# Altium footprint library pcblib_STD.PcbLib: 26 footprints (part 1 of 2)
Each footprint in its own frame and in the unit in brackets; x right, y up, seen from the top. Pads: shape width x height; smd on the part's side, far side on the other; paste and mask are expansions set on the pad; w line width, h text height; cw(c..) or ccw(c..) is an arc to the next point about the centre after c.
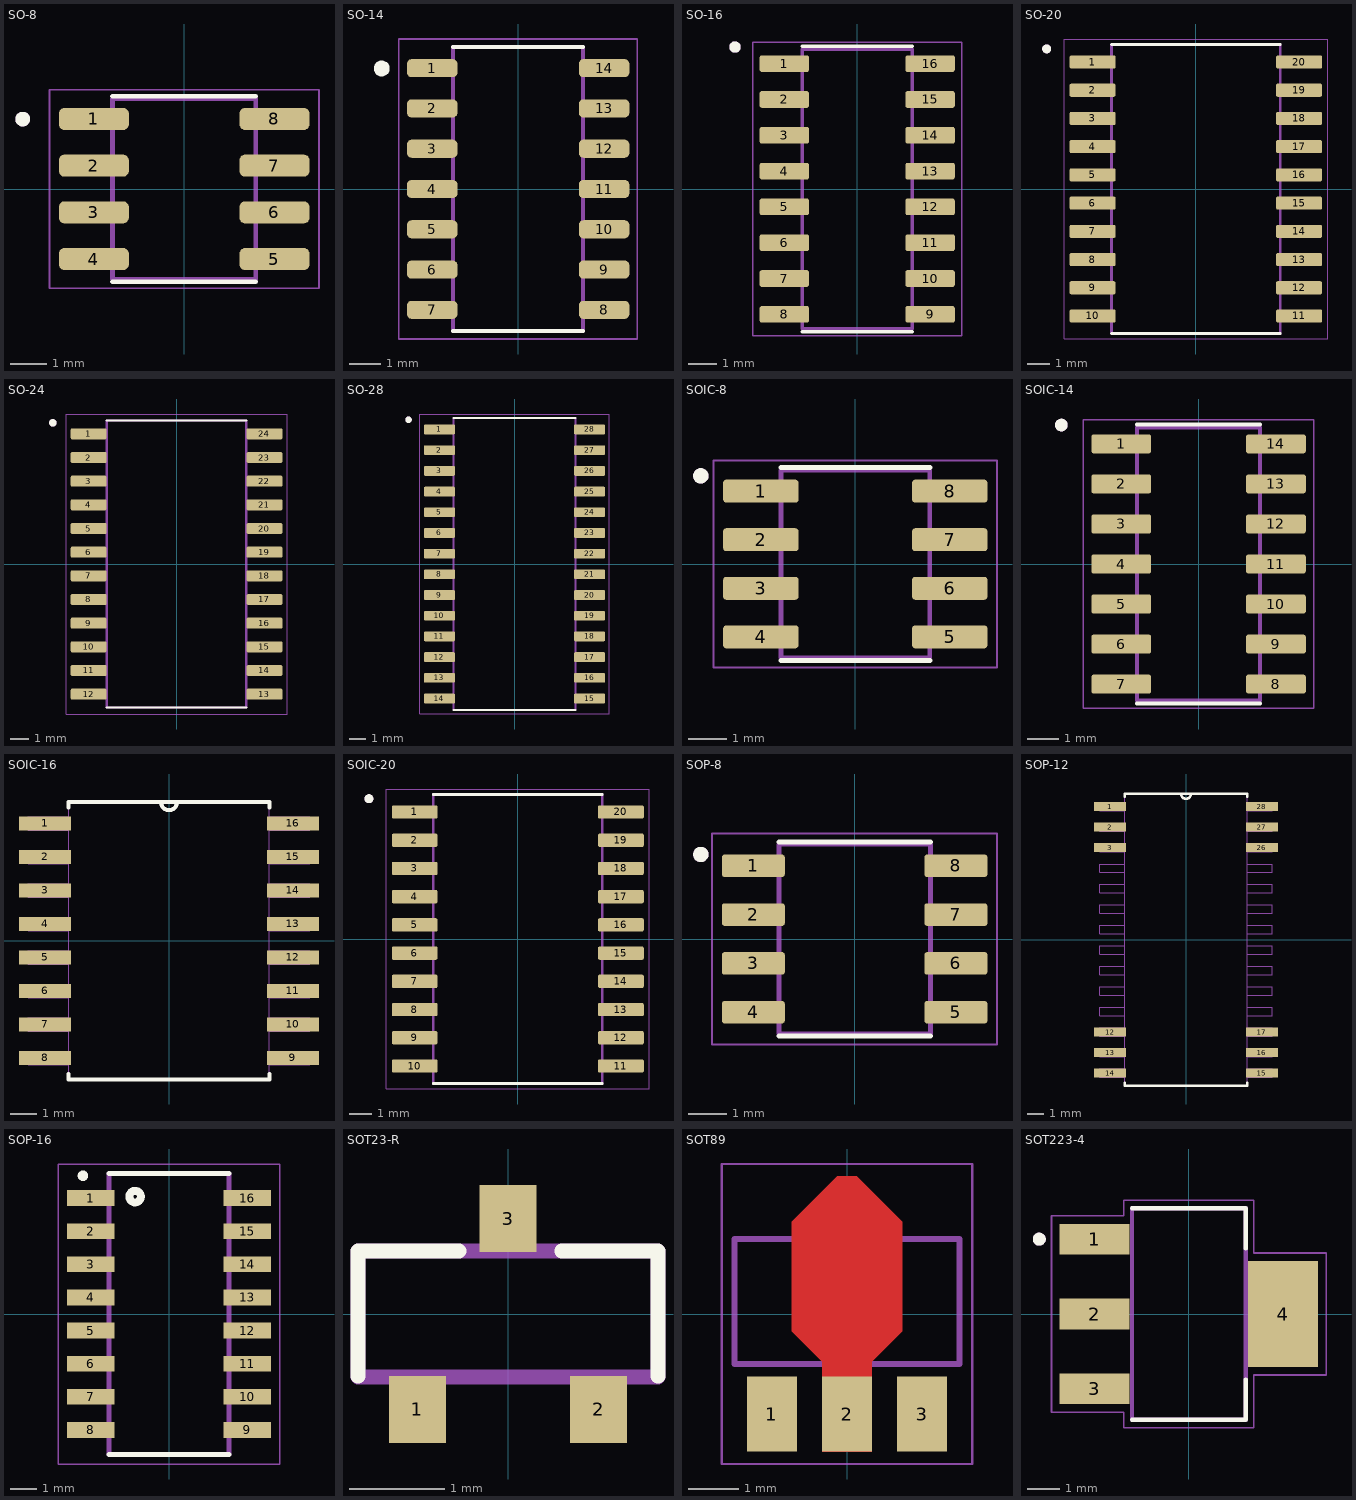
[diagram p0: the footprints below, top view; thin cyan lines are the x and y axes]

## SO-8 [mm]
pads (8):
  rrect50% 1.9x0.6 smd: 1(-2.455,1.905) 2(-2.455,0.635) 3(-2.455,-0.635) 4(-2.455,-1.905) 5(2.455,-1.905) 6(2.455,-0.635) 7(2.455,0.635) 8(2.455,1.905)
Top Overlay:
  circle w0.2: c-4.39,1.9 r0.1
  lines w0.127: -1.95,-2.519 1.95,-2.519 ; -1.95,2.519 1.95,2.519
Mechanical 13:
  circle w0.2: c-4.39,1.9 r0.1
  lines w0.127: -1.95,-2.45 -1.95,2.45 1.95,2.45 1.95,-2.45 -1.95,-2.45
Mechanical 15:
  lines w0.05: -3.665,-2.7 3.665,-2.7 3.665,2.7 -3.665,2.7 -3.665,-2.7

## SO-14 [mm]
pads (14):
  rrect50% 1.59x0.57 smd: 1(-2.71,3.81) 2(-2.71,2.54) 3(-2.71,1.27) 4(-2.71,0) 5(-2.71,-1.27) 6(-2.71,-2.54) 7(-2.71,-3.81) 8(2.71,-3.81) 9(2.71,-2.54) 10(2.71,-1.27) 11(2.71,0) 12(2.71,1.27) 13(2.71,2.54) 14(2.71,3.81)
Top Overlay:
  circle w0.3: c-4.3,3.8 r0.1
  lines w0.127: -2.05,-4.48 2.05,-4.48 ; -2.05,4.48 2.05,4.48
Mechanical 13:
  lines w0.127: -2.05,-4.48 -2.05,4.48 2.05,4.48 2.05,-4.48 -2.05,-4.48
Mechanical 15:
  lines w0.05: -3.76,-4.73 -3.76,4.73 3.76,4.73 3.76,-4.73 -3.76,-4.73

## SO-16 [mm]
pads (16):
  rrect25% 1.75x0.59 smd: 1(-2.585,4.445) 2(-2.585,3.175) 3(-2.585,1.905) 4(-2.585,0.635) 5(-2.585,-0.635) 6(-2.585,-1.905) 7(-2.585,-3.175) 8(-2.585,-4.445) 9(2.585,-4.445) 10(2.585,-3.175) 11(2.585,-1.905) 12(2.585,-0.635) 13(2.585,0.635) 14(2.585,1.905) 15(2.585,3.175) 16(2.585,4.445)
Top Overlay:
  circle w0.2: c-4.335,5.035 r0.1
  lines w0.127: -1.95,-5.06 1.95,-5.06 ; -1.95,5.06 1.95,5.06
Mechanical 13:
  circle w0.2: c-4.335,5.035 r0.1
  lines w0.127: -1.95,-4.95 1.95,-4.95 1.95,4.95 -1.95,4.95 -1.95,-4.95
Mechanical 15:
  lines w0.05: -3.71,-5.2 3.71,-5.2 3.71,5.2 -3.71,5.2 -3.71,-5.2

## SO-20 [mm]
pads (20):
  rrect25% 2.07x0.59 smd: 1(-4.645,5.715) 2(-4.645,4.445) 3(-4.645,3.175) 4(-4.645,1.905) 5(-4.645,0.635) 6(-4.645,-0.635) 7(-4.645,-1.905) 8(-4.645,-3.175) 9(-4.645,-4.445) 10(-4.645,-5.715) 11(4.645,-5.715) 12(4.645,-4.445) 13(4.645,-3.175) 14(4.645,-1.905) 15(4.645,-0.635) 16(4.645,0.635) 17(4.645,1.905) 18(4.645,3.175) 19(4.645,4.445) 20(4.645,5.715)
Top Overlay:
  circle w0.2: c-6.715,6.305 r0.1
  lines w0.127: -3.8,-6.5 3.8,-6.5 ; -3.8,6.5 3.8,6.5
Mechanical 13:
  circle w0.2: c-6.715,6.305 r0.1
  lines w0.127: -3.8,-6.5 3.8,-6.5 3.8,6.5 -3.8,6.5 -3.8,-6.5
Mechanical 15:
  lines w0.05: -5.93,-6.75 5.93,-6.75 5.93,6.75 -5.93,6.75 -5.93,-6.75

## SO-24 [mm]
pads (24):
  rrect25% 1.92x0.59 smd: 1(-4.72,6.985) 2(-4.72,5.715) 3(-4.72,4.445) 4(-4.72,3.175) 5(-4.72,1.905) 6(-4.72,0.635) 7(-4.72,-0.635) 8(-4.72,-1.905) 9(-4.72,-3.175) 10(-4.72,-4.445) 11(-4.72,-5.715) 12(-4.72,-6.985) 13(4.72,-6.985) 14(4.72,-5.715) 15(4.72,-4.445) 16(4.72,-3.175) 17(4.72,-1.905) 18(4.72,-0.635) 19(4.72,0.635) 20(4.72,1.905) 21(4.72,3.175) 22(4.72,4.445) 23(4.72,5.715) 24(4.72,6.985)
Top Overlay:
  circle w0.2: c-6.64,7.575 r0.1
  lines w0.127: -3.75,-7.7 3.75,-7.7 ; -3.75,7.7 3.75,7.7
Mechanical 13:
  circle w0.2: c-6.64,7.575 r0.1
  lines w0.127: -3.75,-7.7 3.75,-7.7 3.75,7.7 -3.75,7.7 -3.75,-7.7
Mechanical 15:
  lines w0.05: -5.93,-8.05 5.93,-8.05 5.93,8.05 -5.93,8.05 -5.93,-8.05

## SO-28 [mm]
pads (28):
  rrect25% 1.9x0.6 smd: 1(-4.605,8.255) 2(-4.605,6.985) 3(-4.605,5.715) 4(-4.605,4.445) 5(-4.605,3.175) 6(-4.605,1.905) 7(-4.605,0.635) 8(-4.605,-0.635) 9(-4.605,-1.905) 10(-4.605,-3.175) 11(-4.605,-4.445) 12(-4.605,-5.715) 13(-4.605,-6.985) 14(-4.605,-8.255) 15(4.605,-8.255) 16(4.605,-6.985) 17(4.605,-5.715) 18(4.605,-4.445) 19(4.605,-3.175) 20(4.605,-1.905) 21(4.605,-0.635) 22(4.605,0.635) 23(4.605,1.905) 24(4.605,3.175) 25(4.605,4.445) 26(4.605,5.715) 27(4.605,6.985) 28(4.605,8.255)
Top Overlay:
  circle w0.2: c-6.505,8.855 r0.1
  lines w0.127: -3.75,-8.95 3.75,-8.95 ; -3.75,8.95 3.75,8.95
Mechanical 13:
  circle w0.2: c-6.505,8.855 r0.1
  lines w0.127: -3.75,-8.95 -3.75,8.95 3.75,8.95 3.75,-8.95 -3.75,-8.95
Mechanical 15:
  lines w0.05: -5.805,-9.2 -5.805,9.2 5.805,9.2 5.805,-9.2 -5.805,-9.2

## SOIC-8 [mm]
pads (8):
  rrect25% 1.97x0.6 smd: 1(-2.47,1.905) 2(-2.47,0.635) 3(-2.47,-0.635) 4(-2.47,-1.905) 5(2.47,-1.905) 6(2.47,-0.635) 7(2.47,0.635) 8(2.47,1.905)
Top Overlay:
  circle w0.2: c-4.04,2.305 r0.1
  lines w0.127: -1.95,-2.525 1.95,-2.525 ; -1.95,2.525 1.95,2.525
Mechanical 13:
  circle w0.2: c-4.04,2.305 r0.1
  lines w0.127: -1.947,-2.452 1.947,-2.452 1.947,2.452 -1.947,2.452 -1.947,-2.452
Mechanical 15:
  lines w0.05: -3.705,-2.702 3.705,-2.702 3.705,2.702 -3.705,2.702 -3.705,-2.702
3D body "step_temp.STEP": height 1.75, standoff 0, extent -3,-2.45 3,2.45

## SOIC-14 [mm]
pads (14):
  rrect25% 1.9x0.6 smd: 1(-2.455,3.81) 2(-2.455,2.54) 3(-2.455,1.27) 4(-2.455,0) 5(-2.455,-1.27) 6(-2.455,-2.54) 7(-2.455,-3.81) 8(2.455,-3.81) 9(2.455,-2.54) 10(2.455,-1.27) 11(2.455,0) 12(2.455,1.27) 13(2.455,2.54) 14(2.455,3.81)
Top Overlay:
  circle w0.2: c-4.355,4.41 r0.1
  lines w0.127: -1.95,-4.43 1.95,-4.43 ; -1.95,4.43 1.95,4.43
Mechanical 13:
  circle w0.2: c-4.355,4.41 r0.1
  lines w0.127: -1.95,-4.325 -1.95,4.325 1.95,4.325 1.95,-4.325 -1.95,-4.325
Mechanical 15:
  lines w0.05: -3.655,-4.575 -3.655,4.575 3.655,4.575 3.655,-4.575 -3.655,-4.575

## SOIC-16 [mil]
pads (16):
  rect 78x21 smd: 1(-185,175) 2(-185,125) 3(-185,75) 4(-185,25) 5(-185,-25) 6(-185,-75) 7(-185,-125) 8(-185,-175) 9(185,-175) 10(185,-125) 11(185,-75) 12(185,-25) 13(185,25) 14(185,75) 15(185,125) 16(185,175)
Top Overlay:
  lines w6: -150,-199 -150,-207 150,-207 150,-199 ; -150,199 -150,207 -12,207 ; 150,199 150,207 12,207 ; -12,207 ccw(c0,207) 12,207 ; -12,207 12,207
Mechanical 13:
  lines w0: -12,207 ccw(c0,207) 12,207 ; -12,207 12,207 ; -12,207 -150,207 -150,-207 150,-207 150,207 12,207 ; -210,-185 -210,-165 -150,-165 -150,-185 -210,-185 ; -210,-135 -210,-115 -150,-115 -150,-135 -210,-135 ; -210,-85 -210,-65 -150,-65 -150,-85 -210,-85 ; -210,-35 -210,-15 -150,-15 -150,-35 -210,-35 ; -210,15 -210,35 -150,35 -150,15 -210,15 ; -210,65 -210,85 -150,85 -150,65 -210,65 ; -210,115 -210,135 -150,135 -150,115 -210,115 ; -210,165 -210,185 -150,185 -150,165 -210,165 ; 150,-185 150,-165 210,-165 210,-185 150,-185 ; 150,-135 150,-115 210,-115 210,-135 150,-135 ; 150,-85 150,-65 210,-65 210,-85 150,-85 ; 150,-35 150,-15 210,-15 210,-35 150,-35 ; 150,15 150,35 210,35 210,15 150,15 ; 150,65 150,85 210,85 210,65 150,65 ; 150,115 150,135 210,135 210,115 150,115 ; 150,165 150,185 210,185 210,165 150,165
3D body "step_temp.STEP": height 104.33, standoff 0, extent -203.25,-202.76 203.25,202.76

## SOIC-20 [mm]
pads (20):
  rrect25% 2.06x0.6 smd: 1(-4.64,5.715) 2(-4.64,4.445) 3(-4.64,3.175) 4(-4.64,1.905) 5(-4.64,0.635) 6(-4.64,-0.635) 7(-4.64,-1.905) 8(-4.64,-3.175) 9(-4.64,-4.445) 10(-4.64,-5.715) 11(4.64,-5.715) 12(4.64,-4.445) 13(4.64,-3.175) 14(4.64,-1.905) 15(4.64,-0.635) 16(4.64,0.635) 17(4.64,1.905) 18(4.64,3.175) 19(4.64,4.445) 20(4.64,5.715)
Top Overlay:
  circle w0.2: c-6.7,6.315 r0.1
  lines w0.127: -3.8,-6.5 3.8,-6.5 ; -3.8,6.5 3.8,6.5
Mechanical 13:
  circle w0.2: c-6.7,6.315 r0.1
  lines w0.127: -3.8,-6.5 3.8,-6.5 3.8,6.5 -3.8,6.5 -3.8,-6.5
Mechanical 15:
  lines w0.05: -5.92,-6.75 5.92,-6.75 5.92,6.75 -5.92,6.75 -5.92,-6.75
3D body "step_temp.STEP": height 2.65, standoff 0, extent -5.15,-6.4 5.15,6.4

## SOP-8 [mm]
pads (8):
  rrect25% 1.64x0.59 smd: 1(-2.635,1.905) 2(-2.635,0.635) 3(-2.635,-0.635) 4(-2.635,-1.905) 5(2.635,-1.905) 6(2.635,-0.635) 7(2.635,0.635) 8(2.635,1.905)
Top Overlay:
  circle w0.2: c-4,2.2 r0.1
  lines w0.127: -1.97,-2.52 1.97,-2.52 ; -1.97,2.52 1.97,2.52
Mechanical 13:
  circle w0.2: c-4,2.2 r0.1
  lines w0.127: -1.97,-2.465 -1.97,2.465 1.97,2.465 1.97,-2.465 -1.97,-2.465
Mechanical 15:
  lines w0.05: -3.705,-2.74 -3.705,2.74 3.705,2.74 3.705,-2.74 -3.705,-2.74

## SOP-12 [mil]
pads (12):
  rect 78x22 smd: 1(-185,325) 2(-185,275) 3(-185,225) 12(-185,-225) 13(-185,-275) 14(-185,-325) 15(185,-325) 16(185,-275) 17(185,-225) 26(185,225) 27(185,275) 28(185,325)
Top Overlay:
  lines w6: -150,-349 -150,-356 150,-356 150,-349 ; -150,349 -150,356 -12,356 ; 150,349 150,356 12,356 ; -12,356 ccw(c0,356) 12,356 ; -12,356 12,356
Mechanical 13:
  lines w0: -12,356 ccw(c0,356) 12,356 ; -12,356 12,356 ; -12,356 -150,356 -150,-356 150,-356 150,356 12,356 ; -210,-335 -210,-315 -150,-315 -150,-335 -210,-335 ; -210,-285 -210,-265 -150,-265 -150,-285 -210,-285 ; -210,-235 -210,-215 -150,-215 -150,-235 -210,-235 ; -210,-185 -210,-165 -150,-165 -150,-185 -210,-185 ; -210,-135 -210,-115 -150,-115 -150,-135 -210,-135 ; -210,-85 -210,-65 -150,-65 -150,-85 -210,-85 ; -210,-35 -210,-15 -150,-15 -150,-35 -210,-35 ; -210,15 -210,35 -150,35 -150,15 -210,15 ; -210,65 -210,85 -150,85 -150,65 -210,65 ; -210,115 -210,135 -150,135 -150,115 -210,115 ; -210,165 -210,185 -150,185 -150,165 -210,165 ; -210,215 -210,235 -150,235 -150,215 -210,215 ; -210,265 -210,285 -150,285 -150,265 -210,265 ; -210,315 -210,335 -150,335 -150,315 -210,315 ; 150,-335 150,-315 210,-315 210,-335 150,-335 ; 150,-285 150,-265 210,-265 210,-285 150,-285 ; 150,-235 150,-215 210,-215 210,-235 150,-235 ; 150,-185 150,-165 210,-165 210,-185 150,-185 ; 150,-135 150,-115 210,-115 210,-135 150,-135 ; 150,-85 150,-65 210,-65 210,-85 150,-85 ; 150,-35 150,-15 210,-15 210,-35 150,-35 ; 150,15 150,35 210,35 210,15 150,15 ; 150,65 150,85 210,85 210,65 150,65 ; 150,115 150,135 210,135 210,115 150,115 ; 150,165 150,185 210,185 210,165 150,165 ; 150,215 150,235 210,235 210,215 150,215 ; 150,265 150,285 210,285 210,265 150,265 ; 150,315 150,335 210,335 210,315 150,315
3D body "step_temp.STEP": height 104.33, standoff 0, extent -203.35,-352.36 203.35,352.36

## SOP-16 [mm]
pads (16):
  rect 1.82x0.6 smd: 1(-3,4.445) 2(-3,3.175) 3(-3,1.905) 4(-3,0.635) 5(-3,-0.635) 6(-3,-1.905) 7(-3,-3.175) 8(-3,-4.445) 9(3,-4.445) 10(3,-3.175) 11(3,-1.905) 12(3,-0.635) 13(3,0.635) 14(3,1.905) 15(3,3.175) 16(3,4.445)
Top Overlay:
  circle w0.3: c-1.3,4.5 r0.224
  circle w0.2: c-3.3,5.3 r0.1
  lines w0.2: -2.3,-5.385 2.3,-5.385 ; -2.3,5.385 2.3,5.385
Mechanical 13:
  lines w0.2: -2.3,-5.385 -2.3,5.385 ; 2.3,-5.385 2.3,5.385
Mechanical 15:
  lines w0.05: -4.25,-5.75 -4.25,5.75 4.25,5.75 4.25,-5.75 -4.25,-5.75

## SOT23-R [mm]
pads (3):
  rect 0.6x0.7 smd: 1(-0.95,-1) 2(0.95,-1) 3(0,1)
Top Overlay:
  lines w0.152: -1.572,-0.652 -1.572,0.66 -0.514,0.66 ; 0.564,0.66 1.572,0.66 1.572,-0.652
Mechanical 13:
  region: 0.229,0.711 -0.229,0.711 -0.229,1.295 0.229,1.295
  region: 1.168,-1.296 0.711,-1.296 0.711,-0.711 1.168,-0.711
  region: -0.711,-1.297 -1.17,-1.297 -1.17,-0.711 -0.711,-0.711
  lines w0.152: -1.572,-0.66 1.572,-0.66 1.572,0.66 -1.572,0.66 -1.572,-0.66

## SOT89 [mm]
pads (3):
  rect 1x1.5 smd: 1(-1.5,-2) 3(1.5,-2)
  rect 1x1.5 smd paste-2 mask+0: 2(0,-2)
Top Layer:
  region: 1.1,1.85 1.1,-0.35 0.5,-0.95 0.5,-2.75 -0.5,-2.75 -0.5,-0.95 -1.1,-0.35 -1.1,1.85 -0.2,2.75 0.2,2.75
Top Paste:
  region: 1.1,1.85 1.1,-0.35 0.5,-0.95 0.5,-2.75 -0.5,-2.75 -0.5,-0.95 -1.1,-0.35 -1.1,1.85 -0.2,2.75 0.2,2.75
Top Solder:
  region: 1.2,1.85 1.2,-0.35 0.6,-0.95 0.6,-2.85 -0.6,-2.85 -0.6,-0.95 -1.2,-0.35 -1.2,1.85 -0.2,2.85 0.2,2.85
Mechanical 13:
  lines w0.127: -2.25,-1 -2.25,1.5 2.25,1.5 2.25,-1 -2.25,-1
Mechanical 15:
  lines w0.05: -2.5,-3 -2.5,3 2.5,3 2.5,-3 -2.5,-3
3D body "step_temp.STEP": height 1.6, standoff 0, extent -2.25,-2.047 2.25,2.047

## SOT223-4 [mm]
height 1.8
pads (4):
  rect 2.15x0.95 smd: 1(-2.9,2.3) 2(-2.9,0) 3(-2.9,-2.3)
  rect 2.15x3.25 smd: 4(2.9,0)
Top Overlay:
  circle w0.2: c-4.6,2.3 r0.1
  lines w0.127: -1.75,-3.25 1.75,-3.25 1.75,-2.01 ; -1.75,3.25 1.75,3.25 1.75,2.01
Mechanical 13:
  circle w0.2: c-4.6,2.3 r0.1
  lines w0.127: -1.75,-3.25 -1.75,3.25 1.75,3.25 1.75,-3.25 -1.75,-3.25
Mechanical 15:
  lines w0.05: -4.225,-3.025 -4.225,3.025 -2,3.025 -2,3.5 2,3.5 2,1.875 4.225,1.875 4.225,-1.875 2,-1.875 2,-3.5 -2,-3.5 -2,-3.025 -4.225,-3.025
3D body "step_temp.STEP": height 1.8, standoff 0, extent -3.499,-3.25 3.499,3.25